# EAGLE library part M93C46-WBN6P (library ST_Microelctronics_By_element14_Batch_1)
serial access EEPROM
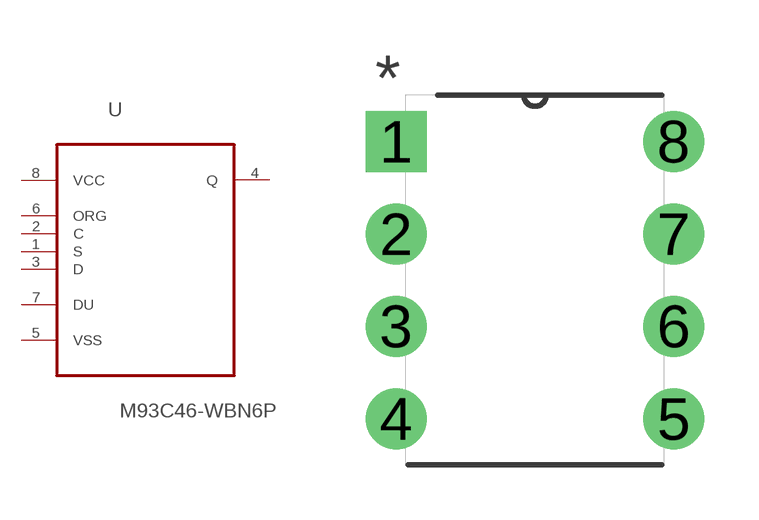
[diagram p257: symbol with the pads of DIP254P762X533-8; footprint DIP254P762X533-8]

Designator prefix U

## M93C46-WBN6P (MPN: M93C46-WBN6P; OC_FARNELL: 9882715; OC_NEWARK: 24M5190; PACKAGE: PDIP-8; SUPPLIER: STMICROELECTRONICS)  [DIP254P762X533-8]
1  S  in
2  C  in
3  D  in
4  Q  out
5  VSS  pwr
6  ORG  in
7  DU  pas
8  VCC  pwr

## Footprint DIP254P762X533-8 (pad centres in mm)
drill 1.118 square: 1 -7.62,7.62
drill 1.118: 2 -7.62,5.08; 3 -7.62,2.54; 4 -7.62,0; 5 0,0; 6 0,2.54; 7 0,5.08; 8 0,7.62